# EAGLE library part ATP3021XX (library aquest)
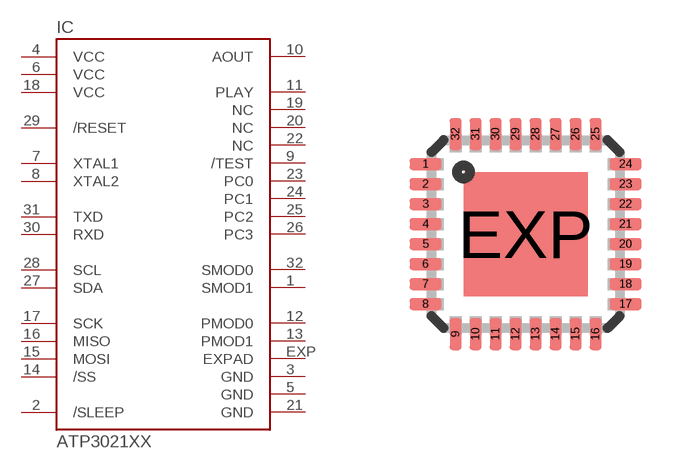
[diagram p4: symbol with the pads of MLF32; footprint MLF32]

Designator prefix IC

## ATP3021XX  [MLF32]
1  SMOD1  nc
2  /SLEEP  nc
3  GND  pwr
4  VCC  pwr
5  GND  pwr
6  VCC  pwr
7  XTAL1  nc
8  XTAL2  nc
9  /TEST  in
10  AOUT  out
11  PLAY  out
12  PMOD0  nc
13  PMOD1  nc
14  /SS  nc
15  MOSI  in
16  MISO  out
17  SCK  in
18  VCC  pwr
19  NC  nc
20  NC  nc
21  GND  pwr
22  NC  nc
23  PC0  in
24  PC1  nc
25  PC2  nc
26  PC3  nc
27  SDA  nc
28  SCL  nc
29  /RESET  in
30  RXD  nc
31  TXD  nc
32  SMOD0  nc
EXP  EXPAD  nc

## Footprint MLF32 (pad centres in mm)
32M1-A Micro Lead Frame package (MLF)
smd 0.8 x 0.3: 1 -2.5,1.75; 2 -2.5,1.25; 3 -2.5,0.75; 4 -2.5,0.25; 5 -2.5,-0.25; 6 -2.5,-0.75; 7 -2.5,-1.25; 8 -2.5,-1.75; 17 2.5,-1.75; 18 2.5,-1.25; 19 2.5,-0.75; 20 2.5,-0.25; 21 2.5,0.25; 22 2.5,0.75; 23 2.5,1.25; 24 2.5,1.75
smd 0.3 x 0.8: 9 -1.75,-2.5; 10 -1.25,-2.5; 11 -0.75,-2.5; 12 -0.25,-2.5; 13 0.25,-2.5; 14 0.75,-2.5; 15 1.25,-2.5; 16 1.75,-2.5; 25 1.75,2.5; 26 1.25,2.5; 27 0.75,2.5; 28 0.25,2.5; 29 -0.25,2.5; 30 -0.75,2.5; 31 -1.25,2.5; 32 -1.75,2.5
smd 3.1 x 3.1: EXP 0,0